# EAGLE library part Q48SC12050NRDH (library Q48SC12050NRDH)
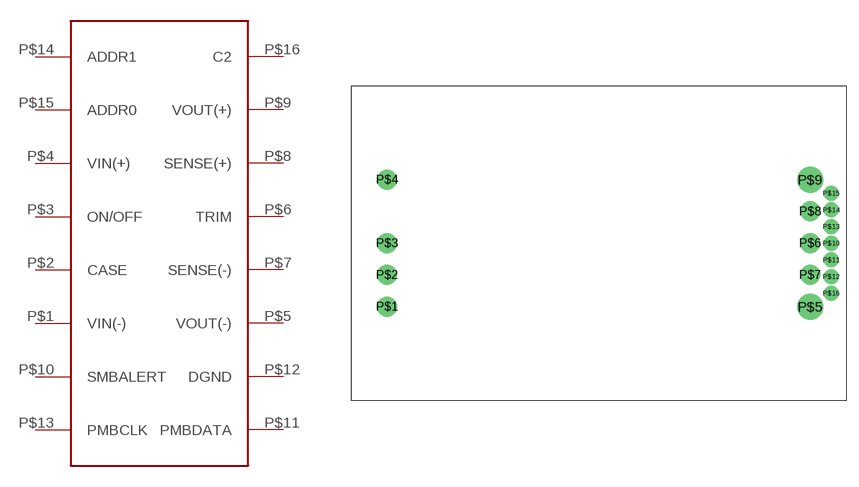
[diagram p0: symbol with the pads of Q48SC12050NRDH; footprint Q48SC12050NRDH]

Designator prefix -

## Q48SC12050NRDH  [Q48SC12050NRDH]
P$1  VIN(-)
P$2  CASE
P$3  ON/OFF
P$4  VIN(+)
P$5  VOUT(-)
P$6  TRIM
P$7  SENSE(-)
P$8  SENSE(+)
P$9  VOUT(+)
P$10  SMBALERT
P$11  PMBDATA
P$12  DGND
P$13  PMBCLK
P$14  ADDR1
P$15  ADDR0
P$16  C2

## Footprint Q48SC12050NRDH (pad centres in mm)
drill 1.6: P$1 0,0; P$2 0,3.81; P$3 0,7.62; P$4 0,15.24; P$6 50.8,7.62; P$7 50.8,3.81; P$8 50.8,11.43
drill 2.1: P$5 50.8,0; P$9 50.8,15.24
drill 1.2: P$10 53.34,7.62; P$11 53.34,5.62; P$12 53.34,3.62; P$13 53.34,9.62; P$14 53.34,11.62; P$15 53.34,13.62; P$16 53.34,1.62